# Altium footprint library PcbLib1.PcbLib: 31 footprints (part 2 of 2)
Each footprint in its own frame and in the unit in brackets; x right, y up, seen from the top. Pads: shape width x height; smd on the part's side, far side on the other; paste and mask are expansions set on the pad; w line width, h text height; cw(c..) or ccw(c..) is an arc to the next point about the centre after c.
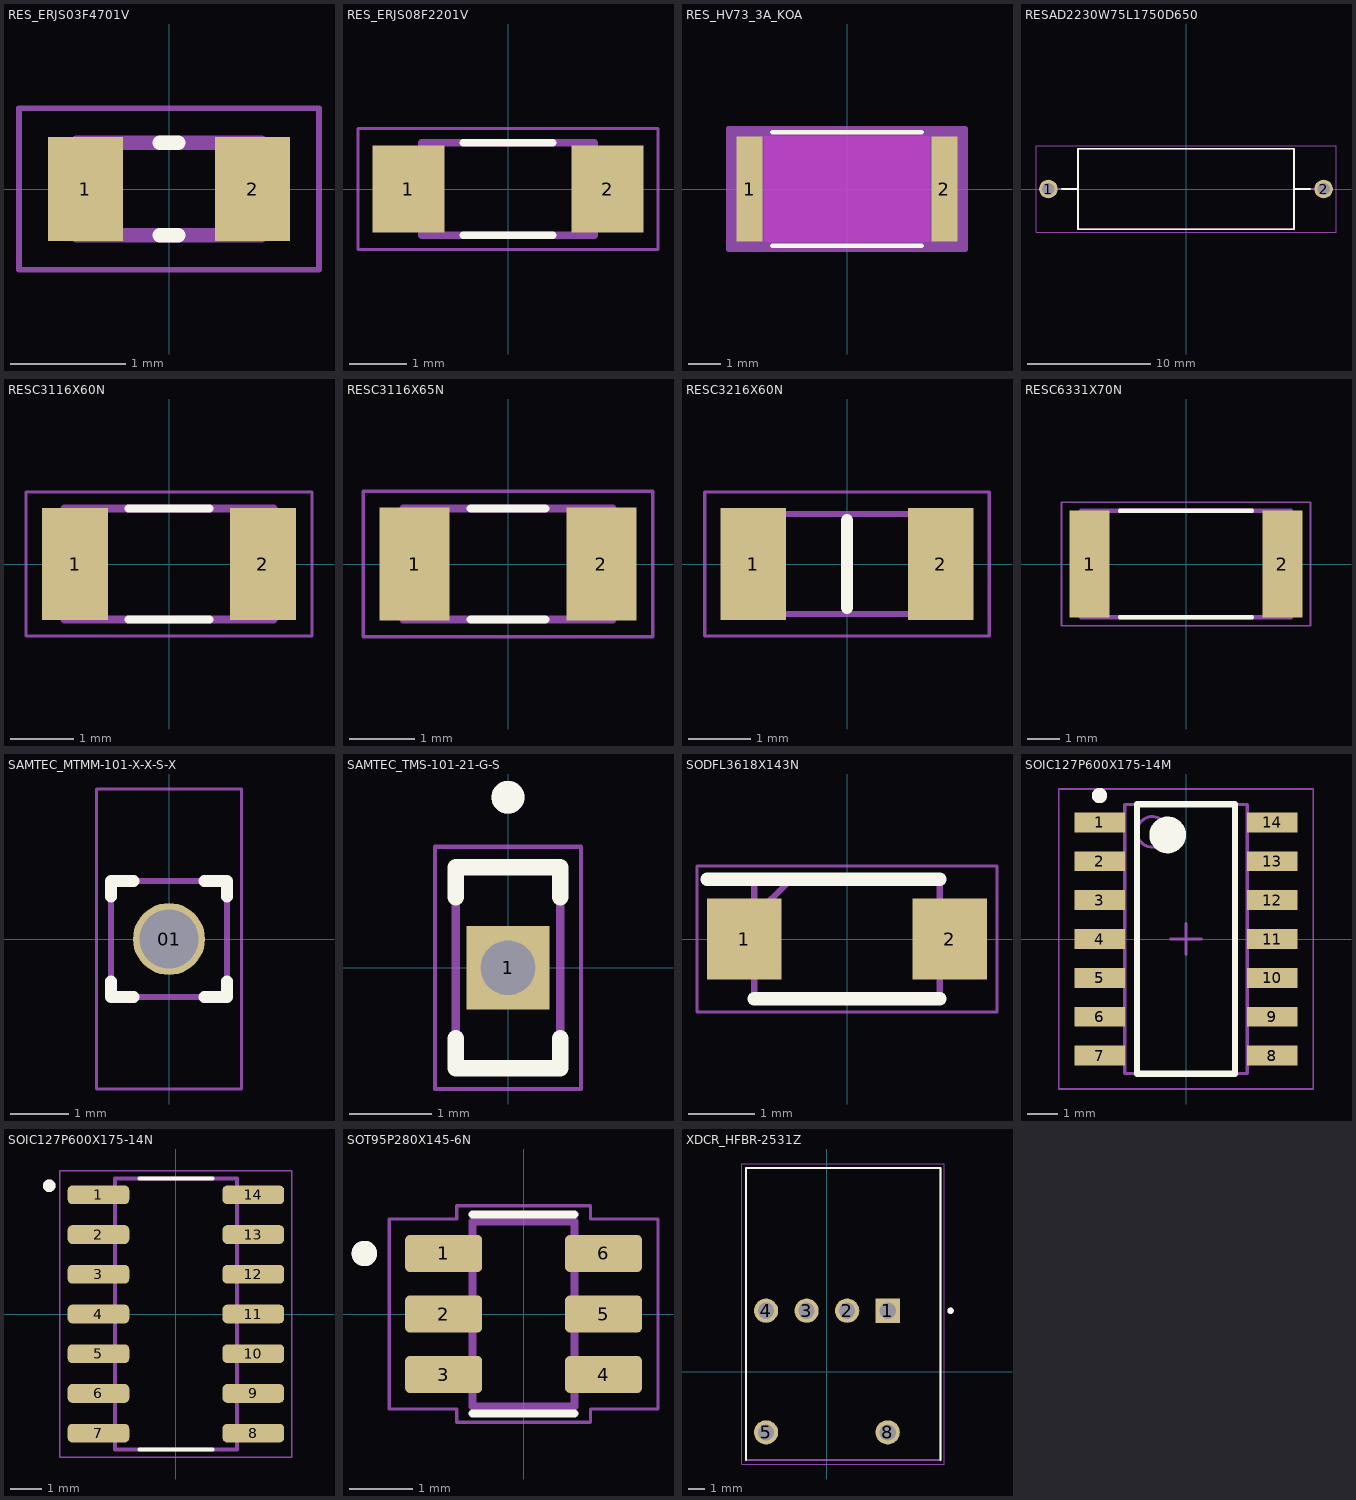
[diagram p1: the footprints below, top view; thin cyan lines are the x and y axes]

## RES_ERJS03F4701V [mm]
height 0.45
pads (2):
  rect 0.65x0.9 smd: 1(-0.725,0) 2(0.725,0)
Top Overlay:
  lines w0.127: -0.08,-0.4 0.08,-0.4 ; -0.08,0.4 0.08,0.4
Mechanical 13:
  lines w0.127: -0.8,-0.4 -0.8,0.4 0.8,0.4 0.8,-0.4 -0.8,-0.4
Mechanical 15:
  lines w0.05: -1.3,-0.7 -1.3,0.7 1.3,0.7 1.3,-0.7 -1.3,-0.7
3D body "step_temp.STEP": height 0.45, standoff 0, extent -0.8,-0.4 0.8,0.4

## RES_ERJS08F2201V [mm]
pads (2):
  rect 1.25x1.5 smd: 1(-1.725,0) 2(1.725,0)
Top Overlay:
  lines w0.127: -0.78,-0.8 0.78,-0.8 ; -0.78,0.8 0.78,0.8
Mechanical 13:
  lines w0.127: -1.5,-0.8 1.5,-0.8 1.5,0.8 -1.5,0.8 -1.5,-0.8
Mechanical 15:
  lines w0.05: -2.6,-1.05 2.6,-1.05 2.6,1.05 -2.6,1.05 -2.6,-1.05
3D body "RES1206_CRG_TYCO_TYC.step": height 0.66, standoff 0, extent -1.626,-0.851 1.626,0.851

## RES_HV73_3A_KOA [mil]
pads (2):
  rect 32x130 smd paste+0 mask+0: 1(-120,0) 2(120,0)
Top Layer keep-out:
  region: -102,-63 -102,63 102,63 102,-63
Top Overlay:
  lines w6: -91.89,-70 91.89,-70 ; -91.89,70 91.89,70
Keep-Out Layer:
  region: -102,-65 -102,65 102,65 102,-65
Mechanical 13:
  lines w1: -128,-65 -128,65 ; -128,-65 -104,-65 -104,65 -128,65 ; -128,-65 128,-65 ; -128,-65 -128,65 ; -128,65 128,65 ; 128,-65 104,-65 104,65 128,65 ; 128,-65 128,65 ; 128,-65 128,65
Mechanical 15:
  region: 146,-75 -146,-75 -146,75 146,75
  lines w6: -146,-75 -146,75 146,75 146,-75 -146,-75
3D body "RES_HV73_3A_KOA.step": height 27.99, standoff 0, extent -127.99,-65 127.99,65

## RESAD2230W75L1750D650 [mm]
pads (2):
  round 1.508 hole 1: 1(-11.15,0) 2(11.15,0)
Top Overlay:
  lines w0.127: -10.076,0 -8.75,0 ; 10.076,0 8.75,0 ; -8.75,0 -8.75,3.25 8.75,3.25 8.75,0 ; -8.75,0 -8.75,-3.25 8.75,-3.25 8.75,0
Mechanical 13:
  lines w0.127: -11.15,0 -8.75,0 ; 11.15,0 8.75,0 ; -8.75,0 -8.75,3.25 8.75,3.25 8.75,0 ; -8.75,0 -8.75,-3.25 8.75,-3.25 8.75,0
Mechanical 15:
  lines w0.05: -12.154,-3.5 12.154,-3.5 12.154,3.5 -12.154,3.5 -12.154,-3.5
3D body "step_temp.STEP": height 6.5, standoff -25.85, extent -11.525,-3.25 11.525,3.25

## RESC3116X60N [mm]
pads (2):
  rect 1.05x1.77 smd: 1(-1.485,0) 2(1.485,0)
Top Overlay:
  lines w0.127: -0.64,-0.88 0.64,-0.88 ; -0.64,0.88 0.64,0.88
Mechanical 13:
  lines w0.127: -1.65,-0.88 1.65,-0.88 1.65,0.88 -1.65,0.88 -1.65,-0.88
Mechanical 15:
  lines w0.05: -2.26,-1.135 2.26,-1.135 2.26,1.135 -2.26,1.135 -2.26,-1.135
3D body "step_temp.STEP": height 0.6, standoff 0, extent -1.6,-0.8 1.6,0.8

## RESC3116X65N [mm]
pads (2):
  rect 1.07x1.73 smd: 1(-1.43,0) 2(1.43,0)
Top Overlay:
  lines w0.127: -0.57,-0.85 0.57,-0.85 ; -0.57,0.85 0.57,0.85
Mechanical 13:
  lines w0.127: -1.6,-0.85 1.6,-0.85 1.6,0.85 -1.6,0.85 -1.6,-0.85
Mechanical 15:
  lines w0.05: -2.215,-1.115 2.215,-1.115 2.215,1.115 -2.215,1.115 -2.215,-1.115
3D body "step_temp.STEP": height 0.65, standoff 0, extent -1.55,-0.8 1.55,0.8

## RESC3216X60N [mm]
pads (2):
  rect 1.05x1.8 smd: 1(-1.5,0) 2(1.5,0)
Top Overlay:
  lines w0.2: 0,-0.7 0,0.7
Mechanical 15:
  lines w0.1: -1.575,-0.8 1.575,-0.8 1.575,0.8 -1.575,0.8 -1.575,-0.8
Mechanical 20:
  lines w0.05: -2.275,-1.15 2.275,-1.15 2.275,1.15 -2.275,1.15 -2.275,-1.15
3D body "CRCW120647K0FKEA.stp": height 0.55, standoff 0, extent -1.6,-0.838 1.6,0.762

## RESC6331X70N [mm]
pads (2):
  rect 1.24x3.32 smd: 1(-2.99,0) 2(2.99,0)
Top Overlay:
  lines w0.127: -2.05,-1.65 2.05,-1.65 ; -2.05,1.65 2.05,1.65
Mechanical 13:
  lines w0.127: -3.25,-1.65 -3.25,1.65 3.25,1.65 3.25,-1.65 -3.25,-1.65
Mechanical 15:
  lines w0.05: -3.858,-1.91 -3.858,1.91 3.858,1.91 3.858,-1.91 -3.858,-1.91
3D body "step_temp.STEP": height 0.7, standoff 0, extent -3.15,-1.575 3.15,1.575

## SAMTEC_MTMM-101-X-X-S-X [mm]
pads (1):
  round 1.24 hole 1.01: 01(0,0)
Top Overlay:
  lines w0.2: -1,-0.73 -1,-1 -0.605,-1 ; -1,0.73 -1,1 -0.605,1 ; 0.605,-1 1,-1 1,-0.73 ; 0.605,1 1,1 1,0.73
Mechanical 13:
  lines w0.1: -1,-1 1,-1 1,1 -1,1 -1,-1
Mechanical 15:
  lines w0.05: -1.25,-2.585 1.25,-2.585 1.25,2.585 -1.25,2.585 -1.25,-2.585
3D body "MTMM-101-03-T-S-120.stp": height 4.55, standoff -3.12, extent -0.999,-1 0.999,1

## SAMTEC_TMS-101-21-G-S [mm]
pads (1):
  rect 1.01x1.01 hole 0.66: 1(0,0)
Top Overlay:
  circle w0.2: c0,2.069 r0.1
  lines w0.2: -0.635,-0.855 -0.635,-1.219 0.635,-1.219 0.635,-0.855 ; -0.635,0.855 -0.635,1.219 0.635,1.219 0.635,0.855
Mechanical 13:
  circle w0.2: c0,2.069 r0.1
  lines w0.1: -0.635,-1.219 -0.635,1.219 0.635,1.219 0.635,-1.219 -0.635,-1.219
Mechanical 15:
  lines w0.05: -0.885,-1.469 0.885,-1.469 0.885,1.469 -0.885,1.469 -0.885,-1.469
3D body "TMS-101-21-G-S.stp": height 8.38, standoff -4.44, extent -0.635,-1.219 0.635,1.219

## SODFL3618X143N [mm]
pads (2):
  rect 1.12x1.22 smd: 1(-1.55,0) 2(1.55,0)
Top Overlay:
  lines w0.2: -2.11,0.9 1.4,0.9 ; -1.4,-0.9 1.4,-0.9
Mechanical 15:
  lines w0.1: -1.4,0.34 -0.84,0.9 ; -1.4,-0.9 -1.4,0.9 1.4,0.9 1.4,-0.9 -1.4,-0.9
Mechanical 20:
  lines w0.05: -2.26,-1.1 -2.26,1.1 2.26,1.1 2.26,-1.1 -2.26,-1.1
3D body "ES1ALHR3.stp": height 1.43, standoff 0, extent -1.8,-0.9 1.8,0.9

## SOIC127P600X175-14M [mm] "SOIC, 14-Leads, Body 8.65x3.90mm, Pitch 1.27mm, IPC Low Density"
height 1.75
pads (14):
  rect 1.65x0.65 smd: 1(-2.825,3.81) 2(-2.825,2.54) 3(-2.825,1.27) 4(-2.825,0) 5(-2.825,-1.27) 6(-2.825,-2.54) 7(-2.825,-3.81) 8(2.825,-3.81) 9(2.825,-2.54) 10(2.825,-1.27) 11(2.825,0) 12(2.825,1.27) 13(2.825,2.54) 14(2.825,3.81)
Top Overlay:
  circle w0.25: c-2.825,4.685 r0.125
  circle w0.6: c-0.6,3.4 r0.3
  lines w0.2: -1.6,-4.4 -1.6,4.4 1.6,4.4 1.6,-4.4 -1.6,-4.4
Top Assembly:
  circle w0.1: c-1.1,3.5 r0.5
  lines w0.1: -2,-4.4 -2,4.4 2,4.4 2,-4.4 -2,-4.4
Mechanical 15:
  lines w0.05: -4.15,-4.9 -4.15,4.9 4.15,4.9 4.15,-4.9 -4.15,-4.9
  lines w0.1: -0.5,0 0.5,0 ; 0,-0.5 0,0.5
3D body "SOIC127P600X175-14M.step": height 1.75, standoff 0, extent -3,-4.4 3,4.4

## SOIC127P600X175-14N [mm]
pads (14):
  rrect50% 1.97x0.6 smd: 1(-2.475,3.81) 2(-2.475,2.54) 3(-2.475,1.27) 4(-2.475,0) 5(-2.475,-1.27) 6(-2.475,-2.54) 7(-2.475,-3.81) 8(2.475,-3.81) 9(2.475,-2.54) 10(2.475,-1.27) 11(2.475,0) 12(2.475,1.27) 13(2.475,2.54) 14(2.475,3.81)
Top Overlay:
  circle w0.2: c-4.05,4.1 r0.1
  lines w0.127: -1.17,-4.325 1.17,-4.325 ; -1.17,4.325 1.17,4.325
Mechanical 13:
  circle w0.2: c-4.05,4.1 r0.1
  lines w0.127: -1.95,-4.325 -1.95,4.325 1.95,4.325 1.95,-4.325 -1.95,-4.325
Mechanical 15:
  lines w0.05: -3.71,-4.575 -3.71,4.575 3.71,4.575 3.71,-4.575 -3.71,-4.575
3D body "step_temp.STEP": height 1.75, standoff 0, extent -3,-4.325 3,4.325

## SOT95P280X145-6N [mm]
pads (6):
  rrect25% 1.21x0.58 smd: 1(-1.255,0.95) 2(-1.255,0) 3(-1.255,-0.95) 4(1.255,-0.95) 5(1.255,0) 6(1.255,0.95)
Top Overlay:
  circle w0.2: c-2.5,0.95 r0.1
  lines w0.127: -0.8,-1.56 0.8,-1.56 ; -0.8,1.56 0.8,1.56
Mechanical 13:
  circle w0.2: c-2.5,0.95 r0.1
  lines w0.127: -0.8,-1.45 0.8,-1.45 0.8,1.45 -0.8,1.45 -0.8,-1.45
Mechanical 15:
  lines w0.05: -2.11,-1.49 -1.05,-1.49 -1.05,-1.7 1.05,-1.7 1.05,-1.49 2.11,-1.49 2.11,1.49 1.05,1.49 1.05,1.7 -1.05,1.7 -1.05,1.49 -2.11,1.49 -2.11,-1.49
3D body "step_temp.STEP": height 1.45, standoff 0, extent -1.4,-1.45 1.4,1.45

## XDCR_HFBR-2531Z [mm]
height 18.8
pads (6):
  rect 1.518x1.518 / inner round 1.518 / far side rect 1.518x1.518 hole 1.01: 1(3.81,3.81)
  round 1.518 hole 1.01: 2(1.27,3.81) 3(-1.27,3.81) 4(-3.81,3.81) 5(-3.81,-3.81) 8(3.81,-3.81)
Top Overlay:
  circle w0.2: c7.75,3.81 r0.1
  lines w0.127: -5.08,-5.54 -5.08,12.75 7.11,12.75 7.11,-5.54
Mechanical 13:
  circle w0.2: c7.75,3.81 r0.1
  lines w0.127: -5.08,-5.54 -5.08,12.75 7.11,12.75 7.11,-5.54 -5.08,-5.54
Mechanical 15:
  lines w0.05: -5.33,-5.79 7.36,-5.79 7.36,13 -5.33,13 -5.33,-5.79
3D body "step_temp.STEP": height 18.8, standoff -3.3, extent -5.08,-5.537 7.112,12.753